# Altium schematic symbol library AltiumLibraries.SchLib: 442 symbols (part 2 of 3)
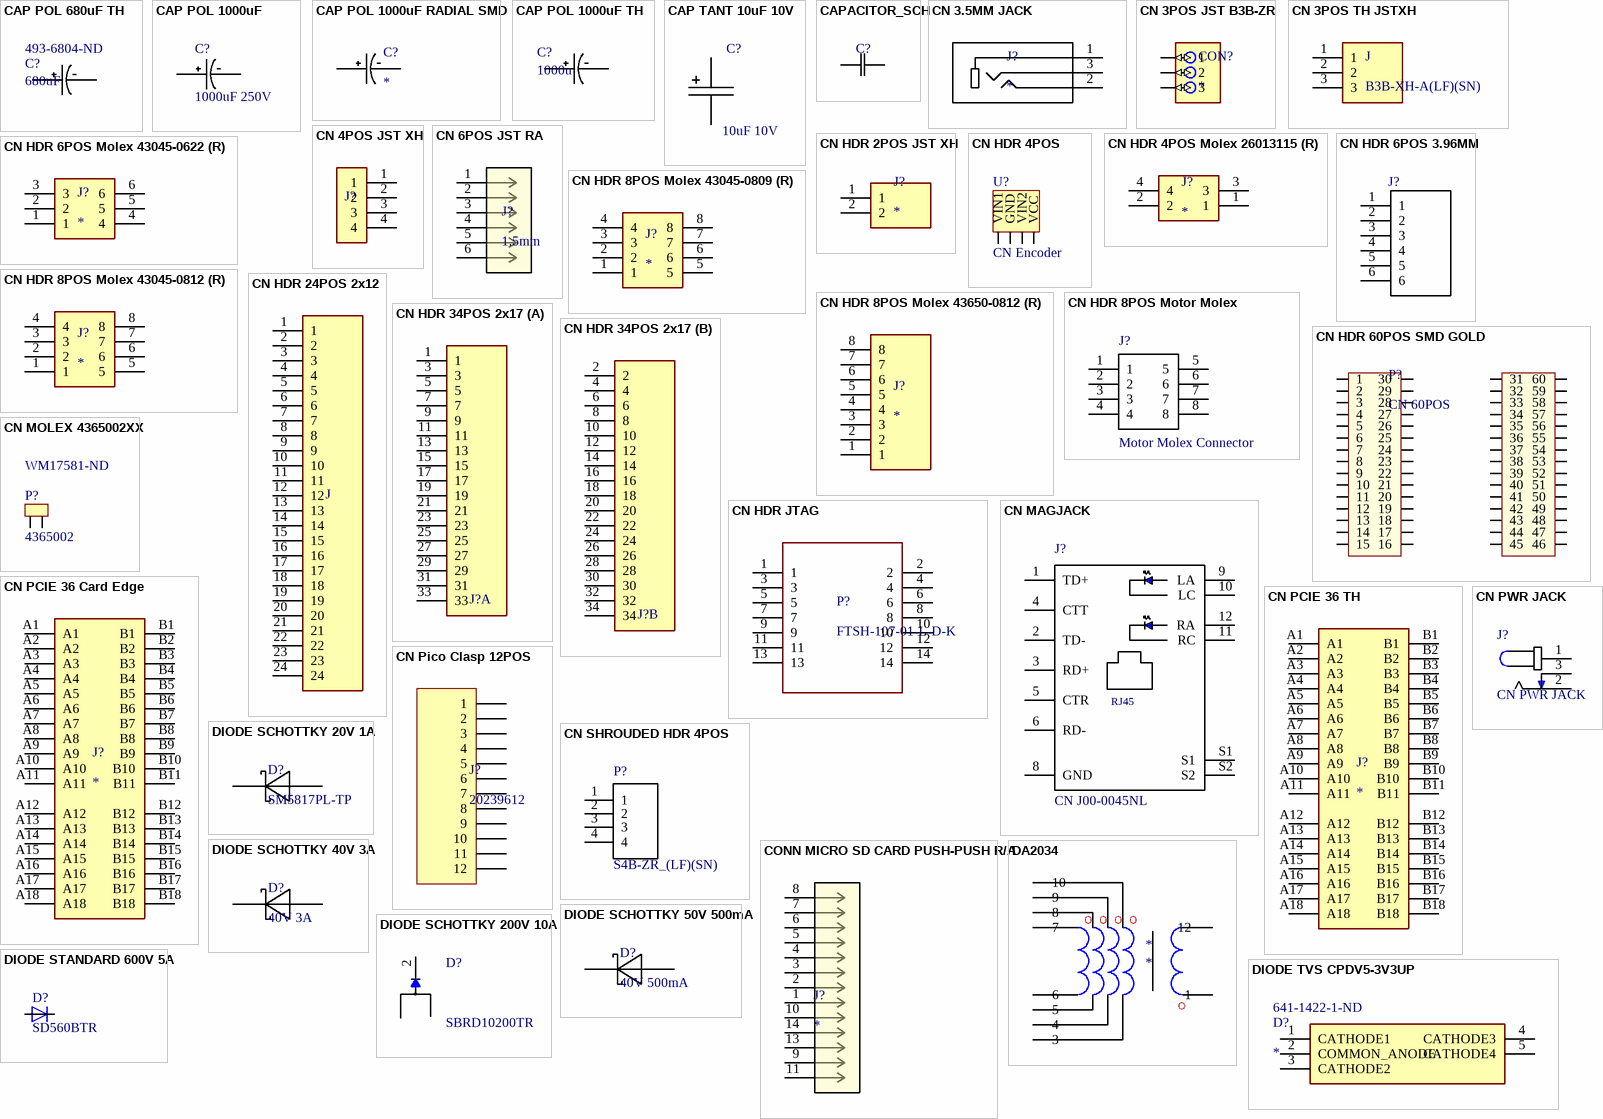
[diagram p12: symbols CAP POL 680uF TH to DIODE TVS CPDV5-3V3UP]

## DIODE TVS CPDV5-3V3UP
designator D?  Supplier Part Number 1: 641-1422-1-ND
TVS Diode Bidirectional Vbr = 3.5V, Working Voltage = 3.3V; Manufacturer_Name: Comchip Technology; Manufacturer_Part_Number: CPDV5-3V3UP; Datasheet Link: http://www.comchiptech.com/admin/files/product/CPDV5-3V3UP-HF%20RevB181493.pdf; Height: 1.1mm; Arrow Part Number: CPDV5-3V3UP; Arrow Price/Stock: https://www.arrow.com/en/products/cpdv5-3v3up/comchip-technology; Mouser Part Number: 750-CPDV5-3V3UP; Mouser Price/Stock: https://www.mouser.com/Search/Refine.aspx?Keyword=750-CPDV5-3V3UP; Supplier 1: Digi-Key
pins: 1 CATHODE1, 2 COMMON_ANODE, 3 CATHODE2, 4 CATHODE3, 5 CATHODE4

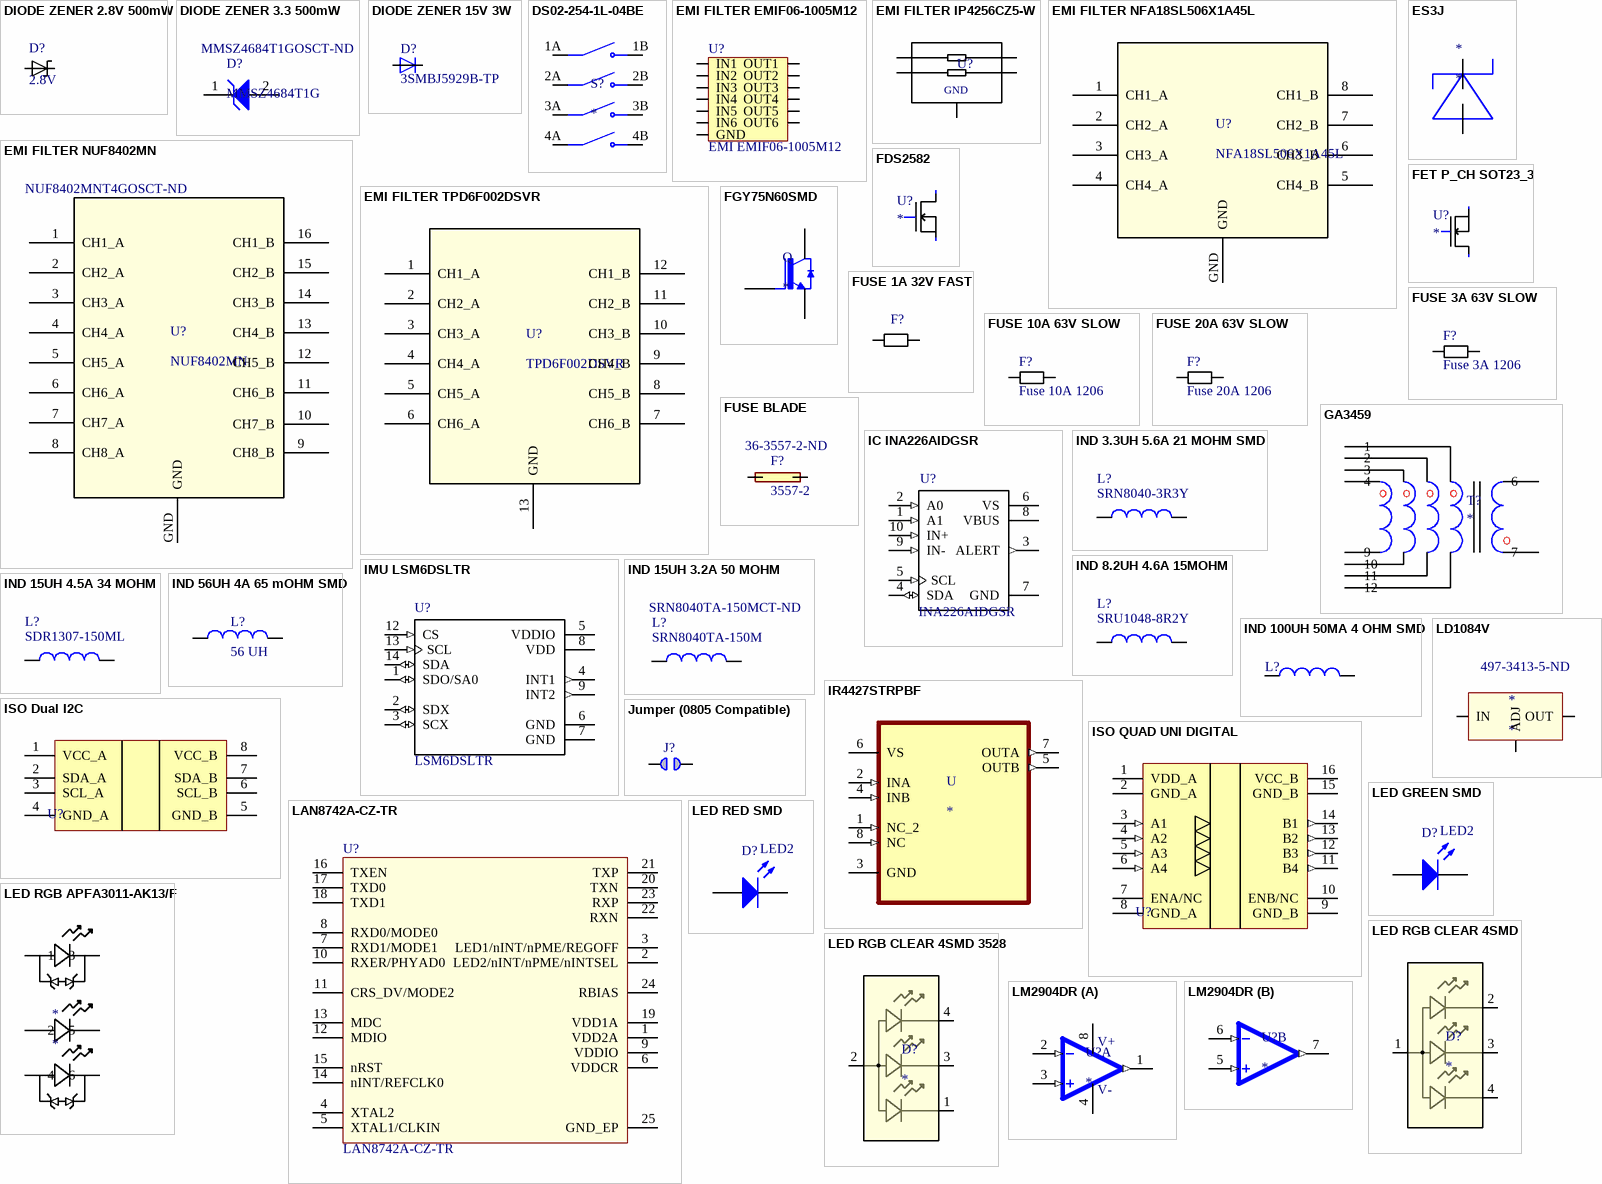
[diagram p4: symbols DIODE ZENER 2.8V 500mW to LM2904DR]

## DIODE ZENER 2.8V 500mW
designator D?, comment 2.8V
Zener Diode 2.8V 500mW ±5% Surface Mount SOD-123; Manufacturer: MMSZ5245B-TP; Impedance (Max) (Zzt): 30 Ohms; Current - Reverse Leakage @ Vr: 75µA @ 1V; Voltage - Forward (Vf) (Max) @ If: 900mV @ 10mA; ComponentLink1Description: digikey; ComponentLink1URL: https://www.digikey.ca/en/products/detail/micro-commercial-co/MMSZ5245B-TP/1793206; Power - Max: 500mW; Voltage - Zener (Nom) (Vz): 2.8V; DigiKey: MMSZ5245B-TPMSCT-ND
pins: A, C

## DIODE ZENER 3.3 500mW
designator D?, comment MMSZ4684T1G  Supplier Part Number 1: MMSZ4684T1GOSCT-ND
Zener 3V3 Voltage Regulator, 500 mW, 2-Pin SOD-123, Pb-Free, Tape and Reel; Manufacturer: On Semiconductor; P Max (W): 0.5; VZ Typ (V): 3.3; ComponentLink2URL: http://www.onsemi.com/pub_link/Collateral/MMSZ4678T1-D.PDF; ComponentLink1URL: http://www.onsemi.com/; PartNumber: MMSZ4684T1G; ComponentLink2Description: Datasheet; ComponentLink3URL: http://www.onsemi.com/pub_link/Collateral/425-04.PDF; DatasheetVersion: Rev. 9; ComponentLink1Description: Manufacturer URL; RoHS: Pb-Free; ComponentLink3Description: Package Specification; PackageReference: SOD-123-2-425-04; PackageVersion: Rev. G, 10/2009; Mounting Technology: Surface Mount; Packing: Tape and Reel; PackageDescription: 2-Pin SOD, Body 1.6 x 2.69 mm; Supplier 1: Digi-Key
pins: 1 K, 2 A

## DIODE ZENER 15V 3W
designator D?, comment 3SMBJ5929B-TP
Diode ZENER 15V 3W; Supplier 1: Digi-Key; Supplier Part Number 1: 3SMBJ5929BTPMSCT-ND
pins: A, C

## DS02-254-1L-04BE
designator S?
Dip Switch Piano Key 4-position; MP: DS02-254-1L-04BE; Package: None; Price: None; Value: *; Availability: Unavailable
pins: 1A COM1, 1B NO1, 2A COM2, 2B NO2, 3A COM3, 3B NO3, 4A COM4, 4B NO4

## EMI FILTER EMIF06-1005M12
designator U?, comment EMI EMIF06-1005M12
FILTER RC(PI) 100 OHM/45PF SMD; MF: STMicroelectronics; Price: 0.49 CAD; Digikey: 497-7740-1-ND; MP: EMIF06-1005M12; Digikey Link: https://www.digikey.ca/product-detail/en/stmicroelectronics/EMIF06-1005M12/497-7740-1-ND/1883755; Package: 12-UFDFN; Supplier 1: Digi-Key; Supplier Part Number 1: 497-7740-1-ND
pins: 1 IN1, 2 IN2, 3 IN3, 4 IN4, 5 IN5, 6 IN6, 7 OUT1, 8 OUT2, 9 OUT3, 10 OUT4, 11 OUT5, 12 OUT6, GND

## EMI FILTER IP4256CZ5-W
designator U?, comment EMI  (value not drawn)
FILTER RC(PI) 100 OHM/19PF SMD; MF: Nexperia USA Inc.; MP: IP4256CZ5-W,115; SnapEDA_Link: https://www.snapeda.com/parts/IP4256CZ5-W/Nexperia%20USA%20Inc./view-part/3605439/?ref=snap; Price: 0.17 CAD; Package: SOT-665; Digikey: 1727-4718-1-ND; Digikey Link: https://www.digikey.ca/product-detail/en/nexperia-usa-inc/IP4256CZ5-W115/1727-4718-1-ND/2531158; Supplier 1: Digi-Key; Supplier Part Number 1: 1727-4718-1-ND
pins: 1 P$1, 2 P$2, 3 P$3, 4 P$4, 5 P$5
text: GND

## EMI FILTER NFA18SL506X1A45L
designator U?, comment NFA18SL506X1A45L
4-Channel EMI Filter 55Mhz LC 2nd Order; Manufacturer: MURATA; GENERIC_PART_NUMBER: TPD6F002; Manufacturer_Part_Number: TPD6F002DSVR; INDUSTRY_STD_PKG_TYPE: 0603 Array; FAMILY_NAME: EMI Solution; PIN_COUNT: 10; Vendor: Texas Instruments; Copyright: Copyright (C) 2018 Accelerated Designs. All rights reserved; RefDes: RefDes; Type: DEV; Supplier 1: Digi-Key
pins: 1 CH1_A, 2 CH2_A, 3 CH3_A, 4 CH4_A, 5 CH4_B, 6 CH3_B, 7 CH2_B, 8 CH1_B, GND

## EMI FILTER NUF8402MN
designator U?, comment NUF8402MN  Supplier Part Number 1: NUF8402MNT4GOSCT-ND
EMI Filter 8ch 105Mhz 100Ohm; Supplier 1: Digi-Key
pins: 1 CH1_A, 2 CH2_A, 3 CH3_A, 4 CH4_A, 5 CH5_A, 6 CH6_A, 7 CH7_A, 8 CH8_A, 9 CH8_B, 10 CH7_B, 11 CH6_B, 12 CH5_B, 13 CH4_B, 14 CH3_B, 15 CH2_B, 16 CH1_B, GND

## EMI FILTER TPD6F002DSVR
designator U?, comment TPD6F002DSVR
6-Channel EMI Filter for Display Interface; Manufacturer: Texas Instruments; INDUSTRY_STD_PKG_TYPE: SON; FAMILY_NAME: EMI Solution; PIN_COUNT: 12; PACKAGE_DESIGNATOR: DSV; Datasheet_URL: http://www.ti.com/lit/gpn/TPD6F002; GENERIC_PART_NUMBER: TPD6F002; Vendor: Texas Instruments; Manufacturer_Part_Number: TPD6F002DSVR; Copyright: Copyright (C) 2018 Accelerated Designs. All rights reserved; RefDes: RefDes; Type: DEV
pins: 1 CH1_A, 2 CH2_A, 3 CH3_A, 4 CH4_A, 5 CH5_A, 6 CH6_A, 7 CH6_B, 8 CH5_B, 9 CH4_B, 10 CH3_B, 11 CH2_B, 12 CH1_B, 13 GND

## ES3J
designator *
Diode Switching 600V 3A 2-Pin DO-214AB T/R; Manufacturer: ON Semiconductor / Fairchild; Manufacturer Part Number: ES3J; Element Configuration: Single; Power Dissipation: 1.66W; Reverse Recovery Time: 35ns; Peak Non-Repetitive Surge Current: 100A; Polarity: Standard; Capacitance: 45pF; Forward Voltage: 1.7V; Peak Reverse Current: 10uA; Supplier 1: Digi-Key; RoHS: Yes; Category: Zener Diodes; Stock 1: 20740; Pricing 1: 1=0.47000, 10=0.37800, 25=0.34600, 100=0.21740, 250=0.21492, 500=0.20126, 1000=0.13685 (USD); Mount: Surface Mount; Case/Package: SMC; Number of Pins: 2; Contact Plating: Tin,Matte; Min Operating Temperature: -50°C; Max Operating Temperature: 150°C; Reverse Voltage: 600V; Max Reverse Voltage (DC): 600V; Average Rectified Current: 3A; Max Repetitive Reverse Voltage (Vrrm): 600V; Max Forward Surge Current (Ifsm): 100A; Current: 3A; Voltage: 600V; Voltage Rating (DC): 600V; Current Rating: 3A; Output Current: 3A; Max Surge Current: 100A; Packaging: Tape and Reel; Package Quantity: 3000; Recovery Time: 35ns; Forward Current: 3A; Length: 7.11mm; Height: 2.616mm; Width: 6.223mm; Radiation Hardening: No; REACH SVHC: No SVHC; Lead Free: Lead Free; ComponentLink1URL: https://datasheet.ciiva.com/4452/es3j-187547-4452440.pdf?src-supplier=Mouser; ComponentLink1Description: https://datasheet.ciiva.com/4452/es3j-187547-4452440.pdf?src-supplier=Mouser; ComponentLink2URL: https://datasheet.ciiva.com/30479/0900766b810e1d0b-30479500.pdf?src-supplier=RSComponents; ComponentLink2Description: https://datasheet.ciiva.com/30479/0900766b810e1d0b-30479500.pdf?src-supplier=RSComponents; ComponentLink3URL: https://datasheet.ciiva.com/22651/1856389-22651960.pdf?src-supplier=Element14; ComponentLink3Description: https://datasheet.ciiva.com/22651/1856389-22651960.pdf?src-supplier=Element14; ComponentLink4URL: https://datasheet.ciiva.com/26230/es3j-26230952.pdf?src-supplier=Avnet+Europe; ComponentLink4Description: https://datasheet.ciiva.com/26230/es3j-26230952.pdf?src-supplier=Avnet+Europe; ComponentLink5URL: https://datasheet.ciiva.com/911/es3a-911003.pdf?src-supplier=Digi-Key; ComponentLink5Description: https://datasheet.ciiva.com/911/es3a-911003.pdf?src-supplier=Digi-Key; ComponentLink6URL: https://datasheet.ciiva.com/911/es3a-911004.pdf?src-supplier=Digi-Key; ComponentLink6Description: https://datasheet.ciiva.com/911/es3a-911004.pdf?src-supplier=Digi-Key; ComponentLink7URL: https://datasheet.ciiva.com/23683/1856389-23683564.pdf?src-supplier=Newark; ComponentLink7Description: https://datasheet.ciiva.com/23683/1856389-23683564.pdf?src-supplier=Newark; ComponentLink8URL: https://datasheet.ciiva.com/17194/es3j-17194703.pdf?src-supplier=Future+Electronics; ComponentLink8Description: https://datasheet.ciiva.com/17194/es3j-17194703.pdf?src-supplier=Future+Electronics; ComponentLink9URL: https://datasheet.ciiva.com/7965/1856389-7965165.pdf?src-supplier=Element14; ComponentLink9Description: https://datasheet.ciiva.com/7965/1856389-7965165.pdf?src-supplier=Element14; ComponentLink10URL: https://datasheet.ciiva.com/8300/es3j-8300861.pdf?src-supplier=Avnet; ComponentLink10Description: https://datasheet.ciiva.com/8300/es3j-8300861.pdf?src-supplier=Avnet; Supplier Part Number 1: ES3JCT-ND
pins: IN, OUT

## FDS2582
designator U?
N-Channel 150V 4.1A (Ta) 2.5W (Ta) Surface Mount 8-SOIC; MF: ON Semiconductor; MP: FDS2582; Digikey: FDS2582CT-ND; Price: 0.98 CAD; Rating: 150V; Digikey Link: https://www.digikey.com/product-detail/en/on-semiconductor/FDS2582/FDS2582CT-ND/3025307; Package: 8-SOIC; Supplier 1: Digi-Key; Supplier Part Number 1: FDS2582CT-ND
pins: D, G, S

## FET P_CH SOT23_3
designator U?
P-Channel MOSFET General Purpose P-CH SOT23-3; Parameter 1: C10487
pins: D, G, S

## FGY75N60SMD
designator Q
IGBT Field Stop 600V 150A 750W Through Hole PowerTO-247-3; MF: ON Semiconductor; MP: FGY75N60SMD; Vge max: ±20V; Topology: Field Stop IGBT; Vce max: 600V; Package: TO-247 Fairchild Semiconductor; Ic max: 150A; Power: 750W; Supplier 1: Digi-Key; Supplier Part Number 1: FGY75N60SMDFS-ND
pins: 1 G, 2 C, 3 E

## FUSE 1A 32V FAST
designator F?
FUSE 1A 32V DC 0603; Response Time: Fast Blow; Current Rating: 1A; ComponentLink1Description: digikey; ComponentLink1URL: https://www.digikey.ca/en/products/detail/kemet/C0603C100K5RAC7867/8572397; Voltage Rating - DC: 32V; Operating Temperature: -55°C ~ 90°C
pins: 1, 2

## FUSE 3A 63V SLOW
designator F?, comment Fuse 3A 1206
FUSE 3A 63V AC/DC SLOW 1206; Response Time: Slow Blow; Current Rating (Amps): 3A; Operating Temperature: -55°C ~ 90°C; Voltage Rating - AC: 63V; Voltage Rating - DC: 63V
pins: 1, 2

## FUSE 10A 63V SLOW
designator F?, comment Fuse 10A 1206
FUSE 10A 32V AC 63V DC 1206; Response Time: Slow Blow; Rating: 10A; Voltage Rating - DC: 63V; Voltage Rating - AC: 32V; Operating Temperature: -55°C ~ 90°C
pins: 1, 2

## FUSE 20A 63V SLOW
designator F?, comment Fuse 20A 1206
FUSE 20A 32V AC 63V DC 1206; Response Time: Slow Blow; Current Rating (Amps): 20A; Voltage Rating - AC: 32V; Voltage Rating - DC: 63V; Operating Temperature: -55°C ~ 90°C
pins: 1, 2

## FUSE BLADE
designator F?, comment 3557-2  Supplier Part Number 1: 36-3557-2-ND
Fuse Block 30A 500V 1 Circuit Blade Through Hole; MF: Keystone Electronics; Package: Nonstandard Keystone; Value: *; Price: None; MP: 3557-2; SnapEDA_Link: https://www.snapeda.com/parts/3557-2/Keystone%20Electronics/view-part/278060/?ref=snap; Availability: Unavailable; Supplier 1: Digi-Key
pins: 1 1A, 2 1B, 3 2A, 4 2B

## GA3459
designator T?
Audio Transformers / Signal Transformers GA3459 for LT3751 500V 20A; Supplier 1: Mouser; Supplier Part Number 1: 994-GA3459-BL
pins: 1, 2, 3, 4, 6, 7, 9, 10, 11, 12

## IC INA226AIDGSR
designator U?, comment INA226AIDGSR
36-V, Bi-Directional, Ultra-High Accuracy, Low-/High-Side, I2C Out Current/Power Monitor w/ Alert 10-VSSOP -40 to 125; MF: Texas Instruments; Price: None; MP: INA226AIDGSR; SnapEDA_Link: https://www.snapeda.com/parts/INA226AIDGSR/Texas%20Instruments/view-part/53552/?ref=snap; Package: MSOP-10 Texas Instruments; Digikey: 296-29034-1-ND; Digikey Link: https://www.digikey.ca/product-detail/en/texas-instruments/INA226AIDGSR/296-29034-1-ND/2687118; Supplier 1: Digi-Key; Supplier Part Number 1: 296-29034-6-ND
pins: 1 A1 (in), 2 A0 (in), 3 ALERT (out), 4 SDA (io), 5 SCL (in), 6 VS (power), 7 GND (power), 8 VBUS (power), 9 IN- (in), 10 IN+ (in)

## IMU LSM6DSLTR
designator U?, comment LSM6DSLTR
IMU ACCEL/GYRO I2C/SPI 14LGA; MF: STMicroelectronics; SnapEDA_Link: https://www.snapeda.com/parts/LSM6DSLTR/STMicroelectronics/view-part/550517/?ref=snap; MP: LSM6DSLTR; Package: LGA-14 STMicroelectronics; Digikey: https://www.digikey.ca/product-detail/en/stmicroelectronics/LSM6DSLTR/497-16705-1-ND/6192805; Supplier 1: Digi-Key; Supplier Part Number 1: 497-16705-1-ND
pins: 1 SDO/SA0 (io), 2 SDX (io), 3 SCX (io), 4 INT1 (out), 5 VDDIO (power), 6 GND (power), 7 GND (power), 8 VDD (power), 9 INT2 (out), 12 CS (in), 13 SCL (in), 14 SDA (io)

## IND 3.3UH 5.6A 21 MOHM SMD
designator L?, comment SRN8040-3R3Y
3.3µH Semi-Shielded Wirewound Inductor 5.6A 21mOhm Max Nonstandard; MF: Bourns Inc.; Inductance: 3.3uH; MP: SRN8040-3R3Y; Price: None; Package: Nonstandard; ComponentLink1Description: digikey; ComponentLink1URL: https://www.digikey.ca/en/products/detail/bourns-inc/SRU1048-8R2Y/2352912; Digikey: SRN8040-3R3YCT-ND; Digikey Link: https://www.digikey.ca/en/products/detail/bourns-inc/SRN8040-3R3Y/2756131
pins: 1, 2

## IND 8.2UH 4.6A 15MOHM
designator L?, comment SRU1048-8R2Y
8.2µH Shielded Wirewound Inductor 4.6A 15mOhm Nonstandard; MF: Bourns Inc.; Value: 8.2uH; MP: SRU1048-8R2Y; Price: None; Package: Nonstandard; ComponentLink1Description: digikey; ComponentLink1URL: https://www.digikey.ca/en/products/detail/bourns-inc/SRU1048-8R2Y/2352912; Digikey: SRU1048-8R2YCT-ND; Digikey Link: https://www.digikey.ca/en/products/detail/bourns-inc/SRU1048-8R2Y/2352912
pins: 1, 2

## IND 15UH 3.2A 50 MOHM
designator L?, comment SRN8040TA-150M  Supplier Part Number 1: SRN8040TA-150MCT-ND
15µH Semi-Shielded Wirewound Inductor 2.4A 70mOhm Max Nonstandard; MF: Bourns Inc.; Inductance: 15.0uH; Current - Saturation: 4A; DC Resistance (DCR): 50mOhm; MP: SRN8040TA-150M; Height - Seated (Max): 4.2mm; ComponentLink1Description: digikey; ComponentLink1URL: https://www.digikey.ca/en/products/detail/bourns-inc/SRU1048-8R2Y/2352912; Digikey: SRN8040TA-150MCT-ND; Digikey Link: https://www.digikey.ca/en/products/detail/bourns-inc/SRN8040TA-150M/6155130; Operating Temperature: -40°C ~ 125°C; Size / Dimension: 0.512"" L x 0.512"" W (13.00mm x 13.00mm); Supplier 1: Digi-Key
pins: 1, 2

## IND 15UH 4.5A 34 MOHM
designator L?, comment SDR1307-150ML
15µH Unshielded Wirewound Inductor 4.5A 34mOhm Max Nonstandard; MF: Bourns Inc.; Inductance: 15.0uH; Current - Saturation: 7.5A; MP: SDR1307-150ML; Height - Seated (Max): 0.287"" (7.30mm); ComponentLink1Description: digikey; ComponentLink1URL: https://www.digikey.ca/en/products/detail/bourns-inc/SRU1048-8R2Y/2352912; Digikey: SDR1307-150MLCT-ND; Digikey Link: https://www.digikey.ca/en/products/detail/bourns-inc/SDR1307-150ML/2561929; DC Resistance (DCR): 34mOhm; Operating Temperature: -40°C ~ 125°C; Size / Dimension: 0.512"" L x 0.512"" W (13.00mm x 13.00mm)
pins: 1, 2

## IND 56UH 4A 65 mOHM SMD
designator L?, comment 56 UH
FIXED IND 56UH 4A 65 MOHM SMD Shielded - Inductor 65mOhm Max Nonstandard -; Value: 56 µH; Digi-Key Part Number: 283-HCM1A1307V2-560-RTR-ND; Current Rating: 4A; DC Resistance: 65mOhm; Supplier 1: Digi-Key; Supplier Part Number 1: 283-HCM1A1307V2-560-RCT-ND
pins: 1, 2, 3, 4

## IND 100UH 50MA 4 OHM SMD
designator L?
100µH Unshielded Wirewound Inductor 50mA 4Ohm 0805 (2012 Metric); Value: 100uH; MF: Taiyo Yuden; MP: LBR2012T101K; Revision: July-2002: Re-released for DXP Platform.; Digikey: 587-2048-1-ND; Digikey Link: https://www.digikey.ca/product-detail/en/taiyo-yuden/LBR2012T101K/587-2048-1-ND/1788995; Supplier 1: Digi-Key; Supplier Part Number 1: 587-4040-1-ND
pins: 1, 2

## IR4427STRPBF
designator U
Low-Side Gate Driver IC Non-Inverting 8-SOIC; MF: Infineon Technologies; MP: IR4427STRPBF; Package: SOIC-8 Infineon; Price: None; Availability: Unavailable; SnapEDA_Link: https://www.snapeda.com/parts/IR4427STRPBF/Infineon%20Technologies/view-part/1815787/?ref=snap; Value: *; Supplier 1: Digi-Key; Supplier Part Number 1: IR4427SPBFCT-ND
pins: 1 NC_2 (in), 2 INA (in), 3 GND, 4 INB (in), 5 OUTB (out), 6 VS (power), 7 OUTA (out), 8 NC (in)

## ISO Dual I2C
designator U?
Digital Isolation Dual Ch Bidirectional I2C; Revision: 1
pins: 1 VCC_A, 2 SDA_A, 3 SCL_A, 4 GND_A, 5 GND_B, 6 SCL_B, 7 SDA_B, 8 VCC_B

## ISO QUAD UNI DIGITAL
designator U?
Digital Isolation Quad Channel.; Revision: 1
pins: 1 VDD_A, 2 GND_A, 3 A1 (in), 4 A2 (in), 5 A3 (in), 6 A4 (in), 7 ENA/NC, 8 GND_A, 9 GND_B, 10 ENB/NC, 11 B4 (out), 12 B3 (out), 13 B2 (out), 14 B1 (out), 15 GND_B, 16 VCC_B

## Jumper (0805 Compatible)
designator J?  (value not drawn)
pins: 1, 2

## LAN8742A-CZ-TR
designator U?
LAN8742A-CZ-TR - Small Footprint RMII 10/100 Ethernet, Transceiver with HP Auto-MDIX and flexPWR Technology SQFN-24; MF: Microchip Technology; MP: LAN8742A-CZ-TR; Digikey: LAN8742A-CZ-CT-ND; Digikey Link: https://www.digikey.ca/product-detail/en/microchip-technology/LAN8742A-CZ-TR/LAN8742A-CZ-CT-ND/8256089; Supplier 1: Digi-Key; Supplier Part Number 1: LAN8742A-CZ-CT-ND
pins: 1 VDD2A, 2 LED2/nINT/nPME/nINTSEL, 3 LED1/nINT/nPME/REGOFF, 4 XTAL2, 5 XTAL1/CLKIN, 6 VDDCR, 7 RXD1/MODE1, 8 RXD0/MODE0, 9 VDDIO, 10 RXER/PHYAD0, 11 CRS_DV/MODE2, 12 MDIO, 13 MDC, 14 nINT/REFCLK0, 15 nRST, 16 TXEN, 17 TXD0, 18 TXD1, 19 VDD1A, 20 TXN, 21 TXP, 22 RXN, 23 RXP, 24 RBIAS, 25 GND_EP

## LD1084V
designator *  Supplier Part Number 1: 497-3413-5-ND
STMICROELECTRONICS         LD1084V            LDO Voltage Regulator, Adjustable, 30V in, 1.3V drop, 5A out, TO-220-3; Interface: SPI,Serial; Access Time: 60ns; Output Voltage: 28V; Number of Outputs: 1; Output Voltage Accuracy: 1%; Max Frequency: 5MHz; Input Bias Current: 5mA; Reference Voltage: 1.25V; Polarity: Positive; Quiescent Current: 10mA; Min Output Voltage: 2.5V; Density: 128Kb; Min Input Voltage: 4.25V; Supplier 1: Digi-Key; Manufacturer: STMicroelectronics; Manufacturer Part Number: LD1084V; RoHS: Yes; Category: Voltage Regulators - Linear; Stock 1: 3520; Pricing 1: 1=1.30000, 10=1.16200, 25=1.10320, 100=0.84710, 250=0.74860, 500=0.70920, 1000=0.55160, 2500=0.52402, 5000=0.50432 (USD); Mount: Through Hole; Case/Package: TO; Number of Pins: 3; Min Operating Temperature: -40°C; Max Operating Temperature: 125°C; Dropout Voltage: 1.3V; Package Quantity: 50; Max Input Voltage: 30V; Output Current: 5A; Packaging: Rail/Tube; Max Output Current: 5A; Number of Regulators: 1; Output Type: Adjustable; Accuracy: 1%; Length: 10.4mm; Height: 9.15mm; Width: 4.6mm; Radiation Hardening: No; REACH SVHC: No SVHC; Lead Free: Lead Free; ComponentLink1URL: https://datasheet.ciiva.com/15111/getdatasheetpartid-64852-15111283.pdf?src-supplier=Verical; ComponentLink1Description: https://datasheet.ciiva.com/15111/getdatasheetpartid-64852-15111283.pdf?src-supplier=Verical; ComponentLink2URL: https://datasheet.ciiva.com/27052/1390160-27052164.pdf?src-supplier=Jameco; ComponentLink2Description: https://datasheet.ciiva.com/27052/1390160-27052164.pdf?src-supplier=Jameco; ComponentLink3URL: https://datasheet.ciiva.com/1511/1786011-1511541.pdf?src-supplier=Element14; ComponentLink3Description: https://datasheet.ciiva.com/1511/1786011-1511541.pdf?src-supplier=Element14; ComponentLink4URL: https://datasheet.ciiva.com/16496/cd00003086-16496021.pdf?src-supplier=Future+Electronics; ComponentLink4Description: https://datasheet.ciiva.com/16496/cd00003086-16496021.pdf?src-supplier=Future+Electronics; ComponentLink5URL: https://datasheet.ciiva.com/2045/cd00003086-2045335.pdf?src-supplier=Digi-Key; ComponentLink5Description: https://datasheet.ciiva.com/2045/cd00003086-2045335.pdf?src-supplier=Digi-Key
pins: 1 IN, 2 ADJ, 3 OUT

## LED GREEN SMD
designator D?, comment LED2
Typical RED, GREEN, YELLOW, AMBER GaAs LED; Voltage - Forward (Vf) (Typ): 2V; Lens Transparency: Clear; Current - Test: 20mA; Package: 1206; Color: Green
pins: 1 A, 2 K

## LED RED SMD
designator D?, comment LED2
Typical RED, GREEN, YELLOW, AMBER GaAs LED; Lens Color: Colorless; Voltage - Forward (Vf) (Typ): 1.7V; Current - Test: 20mA; Lens Transparency: Clear; Color: Red; Package: 1206
pins: 1 A, 2 K

## LED RGB APFA3011-AK13/F
designator *
ComponentLink1Description: Digikey; ComponentLink1URL: https://www.digikey.com/en/products/detail/kingbright/APFA3011-AK13-F/7597102
pins: 1, 2, 3, 4, 5, 6

## LED RGB CLEAR 4SMD
designator D?
LED RGB No Lead
pins: 1, 2, 3, 4

## LED RGB CLEAR 4SMD 3528
designator D?
LED RGB No Lead / AAA3528
pins: 1, 2, 3, 4

## LM2904DR
designator U?
General Purpose Amplifier 2 Circuit 8-SOIC; MF: Texas Instruments; MP: LM2904DR; Package: SOIC-8 Texas Instruments; Availability: Unavailable; Value: *; SnapEDA_Link: https://www.snapeda.com/parts/LM2904DR/Texas%20Instruments/view-part/105730/?ref=snap; Price: None; Supplier 1: Digi-Key; Supplier Part Number 1: 296-14596-1-ND
part A pins: 1 OUT1 (out), 2 IN1- (in), 3 IN1+ (in), 4 V- (power), 8 V+ (power)
part B pins: 5 IN2+ (in), 6 IN2- (in), 7 OUT2 (out)

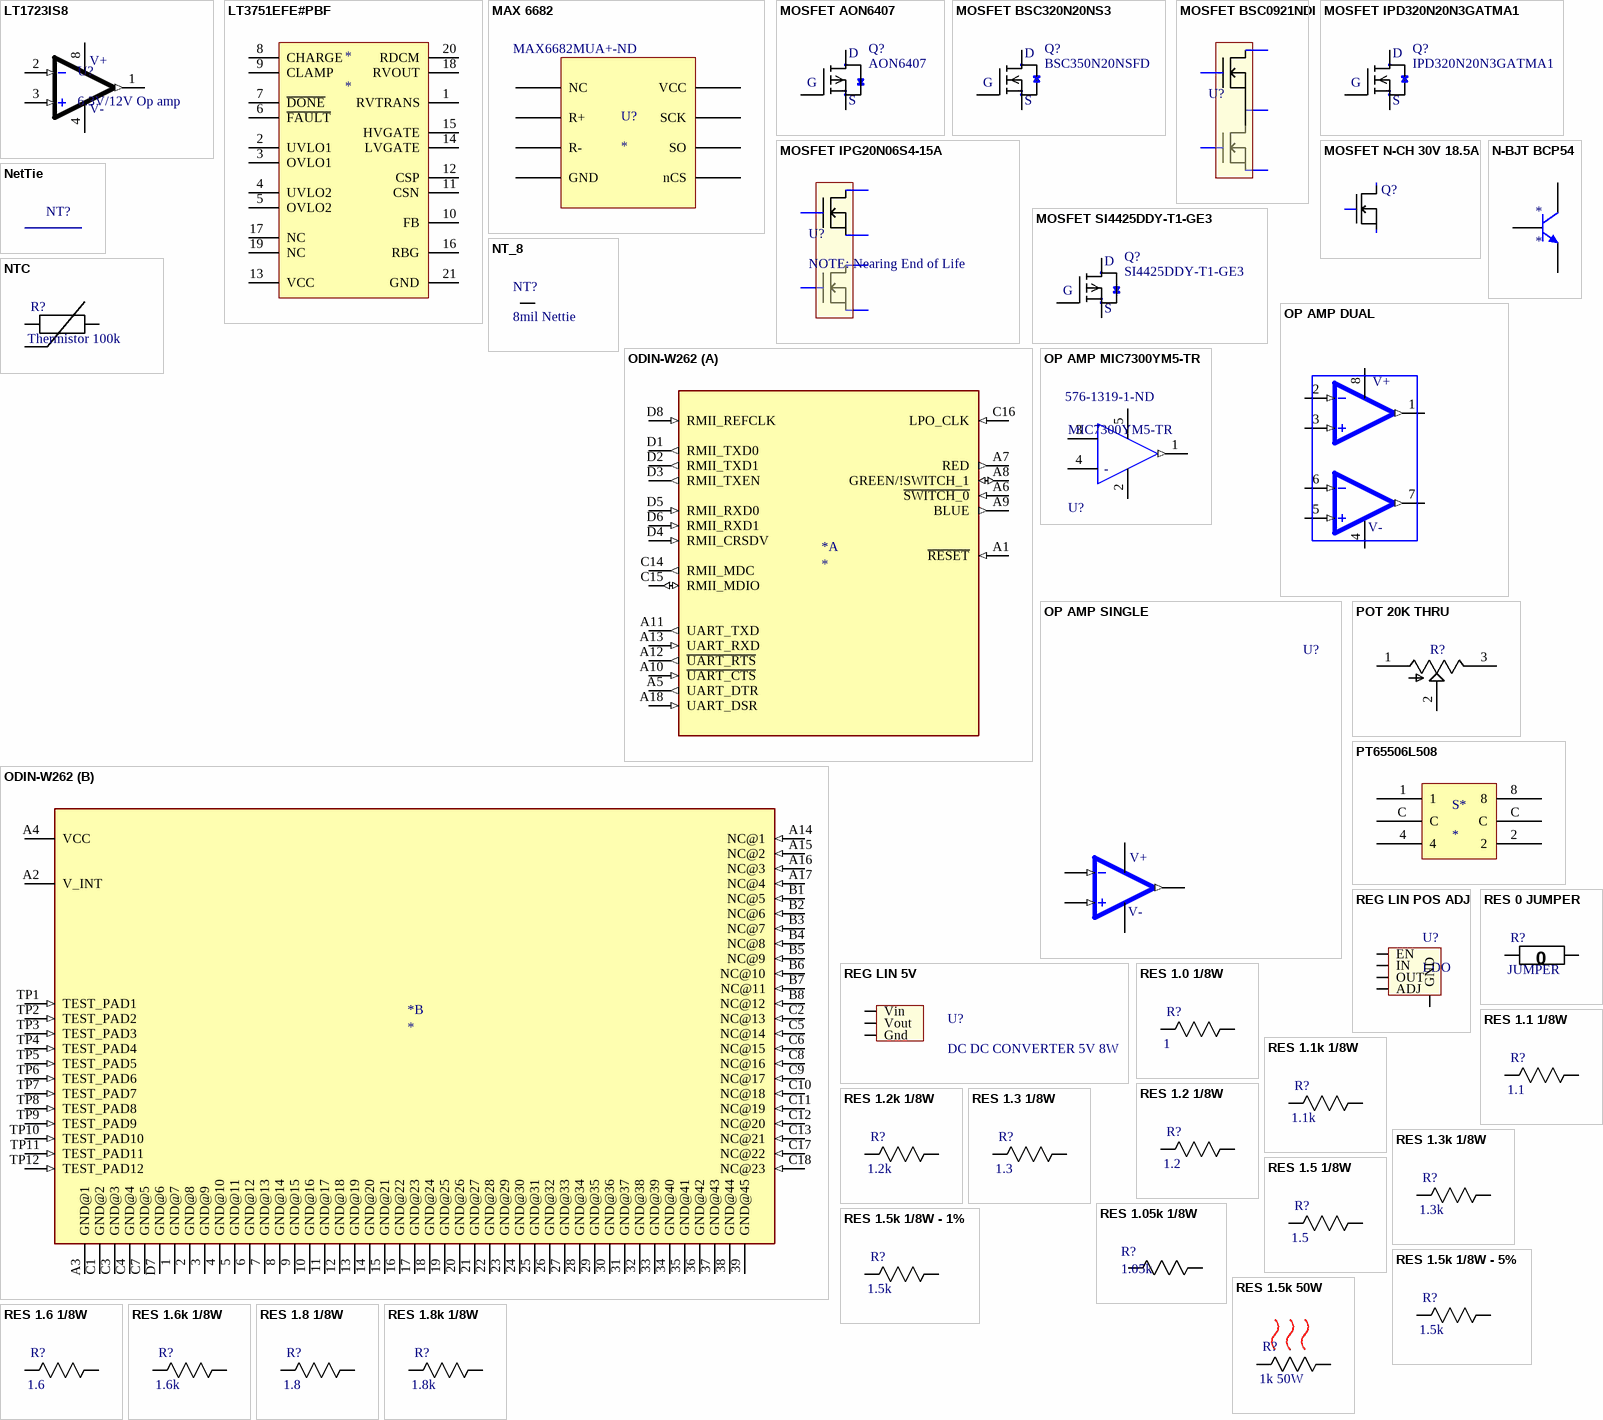
[diagram p5: symbols LT1723IS8 to RES 1.8k 1/8W]

## LT1723IS8
designator U?, comment 6.3V/12V Op amp
IC OPAMP VFB 200MHZ 8SO; Manufacturer: Analog Devices / Linear Technology; Manufacturer Part Number: LT1723IS8#PBF; Min Dual Supply Voltage: 1.15V; Operating Supply Voltage: 3V; Max Dual Supply Voltage: 6.3V; Voltage Gain: 80dB; Slew Rate: 70V/µs; Max Supply Voltage: 12.6V; Min Supply Voltage: 4.6V; Number of Circuits: 2; Input Bias Current: 40nA; Input Offset Voltage (Vos): 400uV; Operating Supply Current: 3.7mA; Output Current per Channel: 50mA; Power Supply Rejection Ratio (PSRR): 78dB; Max Supply Current: 10mA; Supplier 1: Digi-Key; RoHS: Yes; Category: Amplifiers - Op Amps, Buffer, Instrumentation; Stock 1: 290; Case/Package: SOIC; Number of Pins: 8; Min Operating Temperature: -40°C; Max Operating Temperature: 85°C; Package Quantity: 100; Dual Supply Voltage: 3V; Common Mode Rejection Ratio: 80dB; Packaging: Rail/Tube; Nominal Gain Bandwidth Product: 200MHz; Gain Bandwidth Product: 200MHz; Number of Elements: 2; Number of Channels: 2; Length: 5mm; Height: 1.5mm; Width: 3.99mm; Lead Free: Lead Free; ComponentLink1URL: https://datasheet.ciiva.com/19464/1739931-19464951.pdf?src-supplier=Jameco; ComponentLink1Description: https://datasheet.ciiva.com/19464/1739931-19464951.pdf?src-supplier=Jameco; ComponentLink2URL: https://datasheet.ciiva.com/1802/1627-1802924.pdf?src-supplier=Digi-Key; ComponentLink2Description: https://datasheet.ciiva.com/1802/1627-1802924.pdf?src-supplier=Digi-Key; Supplier Part Number 1: LT1723IS8#PBF-ND
pins: 1 OUT1 (out), 2 IN1- (in), 3 IN1+ (in), 4 V- (power), 8 V+ (power)

## LT3751EFE#PBF
designator *
Controller to 20-Pin TSSOP EP; Manufacturer: Analog Devices / Linear Technology; Manufacturer Part Number: LT3751EFE#PBF; Output Voltage: 500V; Output Current: 150mA; Max Input Voltage: 24V; Min Supply Voltage: 4.75V; Number of Outputs: 1; Operating Supply Current: 5.5mA; Supplier 1: Digi-Key; RoHS: Yes; Category: Voltage Regulators - Switching; Stock 1: 1231; Pricing 1: 1=9.26000, 25=6.14640, 100=5.08200, 250=4.82792, 500=4.71900 (USD); Case/Package: TSSOP; Number of Pins: 20; Min Operating Temperature: -40°C; Max Operating Temperature: 125°C; Package Quantity: 74; Packaging: Rail/Tube; Termination: SMD/SMT; Max Supply Voltage: 24V; Radiation Hardening: No; REACH SVHC: No SVHC; ComponentLink1URL: https://datasheet.ciiva.com/15104/getdatasheetpartid-472813-15104438.pdf?src-supplier=Verical; ComponentLink1Description: https://datasheet.ciiva.com/15104/getdatasheetpartid-472813-15104438.pdf?src-supplier=Verical; ComponentLink2URL: https://datasheet.ciiva.com/31429/1692507-31429494.pdf?src-supplier=Farnell; ComponentLink2Description: https://datasheet.ciiva.com/31429/1692507-31429494.pdf?src-supplier=Farnell; ComponentLink3URL: https://datasheet.ciiva.com/1964/27024-1964843.pdf?src-supplier=Digi-Key; ComponentLink3Description: https://datasheet.ciiva.com/1964/27024-1964843.pdf?src-supplier=Digi-Key
pins: 1 RVTRANS "Transformer Supply Sense Pin. Connect a resistor between the RVTRANS pin and the VTRANS supply. Refer to Table 2 for proper sizing of the RVTRANS resistor. The minimum operation voltage for VTRANS is 4.75V.", 2 UVLO1 "VTRANS Undervoltage Lockout Pin. Senses when VTRANS drops below: VUVLO1 = 1.225+ 50uA •RUVLO1 and trips the F\A\U\L\T\ latch low, disabling switching. After VTRANS rises above VUVLO1, toggling the CHARGE pin reactivate(See Datasheet)", 3 OVLO1 "VTRANS Overvoltage Lockout Pin. Senses when VTRANS rises above: VOVLO1 = 1.225+ 50uA •ROVLO1 and trips the F\A\U\L\T\ latch low, disabling switching. After VTRANS drops below VOVLO1, toggling the CHARGE pin reactivate(See Datasheet)", 4 UVLO2 "VCC Undervoltage Lockout Pin. Senses when VCC drops below: VUVLO2 = 1.225+ 50uA •RUVLO2 and trips the F\A\U\L\T\ latch low, disabling switching. After VCC rises above VUVLO2, toggling the CHARGE pin reactivates switching.", 5 OVLO2 "VCC Overvoltage Lockout Pin. Senses when VCC rises above: VOVLO2 = 1.225+ 50uA •ROVLO2 and trips the F\A\U\L\T\ latch low, disabling switching. After VCC drops below VOVLO2, toggling the CHARGE pin reactivates switching.", 6 ~{FAULT} "Open Collector Indication Pin. When either VTRANS or VCC exceeds the user-selected voltage range, or an internal UVLO condition occurs, a transistor turns on. The part will stop switching. This pin needs a proper pull-up (See Datasheet)", 7 ~{DONE} "Open Collector Indication Pin. When the target output voltage (charge mode) is reached or the F\A\U\L\T\ pin goes low, a transistor turns on. This pin needs a proper pull-up resistor or current source.", 8 CHARGE "Charge Pin. Initiates a new charge cycle (charge mode) or enables the part (regulation mode) when driven higher than 1.5V. Bring this pin below 0.3V to discontinue charging and put the part into shutdown. Turn-on ramp rates (See Datasheet)", 9 CLAMP "Internal Clamp Voltage Selection Pin. Tie this pin to VCC to activate the internal 5.6V gate driver clamp. Tie this pin to ground to activate the internal 10.5V gate driver clamp.", 10 FB "Feedback Regulation Pin. Use this pin to achieve low noise voltage regulation. FB is internally regulated to 1.22V when a resistive divider is tied from this pin to the output. FB pin should not float. Tie FB pin to either a (See Datasheet)", 11 CSN "Negative Current Sense Pin. Senses external NMOS source current. Connect to local RSENSE ground connection for proper Kelvin sensing. The current limit is set by 106mV/RSENSE.", 12 CSP "Positive Current Sense Pin. Senses NMOS source current. Connect the NMOS source terminal and the current sense resistor to this pin. The current limit is fixed at 106mV/RSENSE in charge mode. The current limit can be reduced (See Datasheet)", 13 VCC "Input Supply Pin. Must be locally bypassed with high grade (X5R or better) ceramic capacitor. The minimum operating voltage for VCC is 4.75V.", 14 LVGATE "Low Voltage Gate Pin. Connect the NMOS gate terminal to this pin when operating VCC below 8V. The internal gate driver will drive the voltage to the VCC rail. When operating VCC higher than 8V, tie this pin directly to VCC.", 15 HVGATE "High Voltage Gate Pin. Connect NMOS gate terminal to this pin for all VCC operating voltages. Internal gate driver will drive the voltage to within VCC -2V during each switch cycle.", 16 RBG "Bias Generation Pin. Generates a bias current set by 0.98V/RBG. Select RBG to achieve desired resistance for RDCM, RVOUT, and RVTRANS.", 17 NC "No Connection.", 18 RVOUT "Output Voltage Sense Pin. Develops a current proportional to the output capacitor voltage.", 19 NC "No Connection.", 20 RDCM "Discontinuous Mode Sense Pin. Senses when the external NMOS drain is equal to 20uA ?RDCM + VTRANS and initiates the next switch cycle. Place a resistor equal to 0.45 times the resistor on the RVTRANS pin between this pi(See Datasheet)", 21 GND "Ground. Tie directly to local ground plane."

## MAX 6682
designator U?  Supplier Part Number 1: MAX6682MUA+-ND
MAX 6685 Thermistor - SPI converter, 8bit; Supplier 1: Digi-Key
pins: 1 NC, 2 R+, 3 R-, 4 GND, 5 nCS, 6 SO, 7 SCK, 8 VCC

## MOSFET AON6407
designator Q?, comment AON6407
MOSFET P-CH 30V 32A 8DFN; MF: Alpha & Omega Semiconductor Inc.; Package: 8-PowerSMD; MP: AON6407; Digikey: 785-1421-1-ND; Digikey Link: https://www.digikey.ca/product-detail/en/alpha-omega-semiconductor-inc/AON6407/785-1421-1-ND/3466800; Supplier 1: Digi-Key; Supplier Part Number 1: 785-1421-1-ND
pins: D, G, S

## MOSFET BSC320N20NS3
designator Q?, comment BSC350N20NSFD
MOSFET N-CH 36A 200V; MF: Infineon; Package: 8-PowerTDFN; Digikey: BSC320N20NS3GATMA1CT-ND; Digikey Link: https://www.digikey.ca/en/products/detail/infineon-technologies/BSC320N20NS3GATMA1/2337851; Supplier 1: Digi-Key; Supplier Part Number 1: BSC320N20NS3GATMA1CT-ND
pins: D, G, S

## MOSFET BSC0921NDI
designator U?
MOSFET N+N 30V 17A; MF: Infineon Technologies; MF P/N: BSC0921NDI; Supplier 1: Digi-Key; Supplier Part Number 1: BSC0921NDIATMA1CT-ND
pins: D1, G1, G2, S1D2, S2

## MOSFET IPD320N20N3GATMA1
designator Q?, comment IPD320N20N3GATMA1
MOSFET N-CH 34A 200V DPAK; MF: Infineon; Package: DPAK; Digikey: IPD320N20N3GATMA1CT-ND; Digikey Link: https://www.digikey.ca/en/products/detail/infineon-technologies/IPD320N20N3GATMA1/5823324; Supplier 1: Digi-Key; Supplier Part Number 1: IPD320N20N3GATMA1CT-ND
pins: D, G, S

## MOSFET IPG20N06S4-15A
designator U?, comment NOTE: Nearing End of Life
MOSFET N+N 60V 20A; MF: Infineon Technologies; MF P/N: IPG20N06S4-15A; Supplier 1: Mouser; Supplier Part Number 1: 726-IPG20N06S415ATMA
pins: 1 S1, 2 G1, 3 S2, 4 G2, 6 D2, 8 D1

## MOSFET N-CH 30V 18.5A
designator Q?, comment N-Channel  (value not drawn)
MOSFET N-CH 30V 18.5A 8-SOIC; MF: ON Semiconductor; MP: FDS8813NZ; Digikey: FDS8813NZCT-ND; Price: 1.727 CAD; Rating: 30V; Digikey Link: https://www.digikey.ca/product-detail/en/on-semiconductor/FDS8813NZ/FDS8813NZCT-ND/1626932; Package: 8-SOIC; Supplier 1: Digi-Key; Supplier Part Number 1: FDS8813NZCT-ND
pins: D, G, S

## MOSFET SI4425DDY-T1-GE3
designator Q?, comment SI4425DDY-T1-GE3
P-Channel 30V 19.7A (Tc) 2.5W (Ta), 5.7W (Tc) Surface Mount 8-SO; MF: ON Semiconductor; Package: 8-SOIC; MP: SI4425DDY-T1-GE3; ComponentLink1Description: digikey; ComponentLink1URL: https://www.digikey.ca/en/products/detail/vishay-siliconix/SI4425DDY-T1-GE3/2622187; Digikey: SI4425DDY-T1-GE3CT-ND; Digikey Link: https://www.digikey.ca/product-detail/en/vishay-siliconix/SI4425DDY-T1-GE3/SI4425DDY-T1-GE3CT-ND/3305378
pins: D, G, S

## N-BJT BCP54
designator *
TRANS NPN 45V 1A SOT223; MF: Nexperia; MP: BCP54; Digikey PN: 1727-1531-1-ND; Supplier 1: Digi-Key; Supplier Part Number 1: 1727-1531-1-ND
pins: 1 B, 2 C, 3 E

## NetTie
designator NT?  (value not drawn)  (net tie, no BOM)
Combines 2 nets
pins: 1, 2

## NT_8
designator NT?, comment 8mil Nettie
8mil wide nettie
pins: 1, 2

## NTC
designator R?, comment Thermistor 100k
Value: 0; Package: 0805
pins: 1 R1, 2 R2

## ODIN-W262
designator *
Supplier 1: Digi-Key; Supplier Part Number 1: 672-1017-6-ND
part A pins: A1 ~{RESET} (in), A5 UART_DTR (out), A6 ~{SWITCH_0} (in), A7 RED (out), A8 GREEN/!SWITCH_1 (io), A9 BLUE (out), A10 ~{UART_CTS} (in), A11 UART_TXD (out), A12 ~{UART_RTS} (out), A13 UART_RXD (in), A18 UART_DSR (in), C14 RMII_MDC (out), C15 RMII_MDIO (io), C16 LPO_CLK (in), D1 RMII_TXD0 (out), D2 RMII_TXD1 (out), D3 RMII_TXEN (out), D4 RMII_CRSDV (in), D5 RMII_RXD0 (in), D6 RMII_RXD1 (in), D8 RMII_REFCLK (in)
part B pins: 1 GND@7 (power), 2 GND@8 (power), 3 GND@9 (power), 4 GND@10 (power), 5 GND@11 (power), 6 GND@12 (power), 7 GND@13 (power), 8 GND@14 (power), 9 GND@15 (power), 10 GND@16 (power), 11 GND@17 (power), 12 GND@18 (power), 13 GND@19 (power), 14 GND@20 (power), 15 GND@21 (power), 16 GND@22 (power), 17 GND@23 (power), 18 GND@24 (power), 19 GND@25 (power), 20 GND@26 (power), 21 GND@27 (power), 22 GND@28 (power), 23 GND@29 (power), 24 GND@30 (power), 25 GND@31 (power), 26 GND@32 (power), 27 GND@33 (power), 28 GND@34 (power), 29 GND@35 (power), 30 GND@36 (power), 31 GND@37 (power), 32 GND@38 (power), 33 GND@39 (power), 34 GND@40 (power), 35 GND@41 (power), 36 GND@42 (power), 37 GND@43 (power), 38 GND@44 (power), 39 GND@45 (power), A2 V_INT (power), A3 GND@1 (power), A4 VCC (power), A14 NC@1 (in), A15 NC@2 (in), A16 NC@3 (in), A17 NC@4 (in), B1 NC@5 (in), B2 NC@6 (in), B3 NC@7 (in), B4 NC@8 (in), B5 NC@9 (in), B6 NC@10 (in), B7 NC@11 (in), B8 NC@12 (in), C1 GND@2 (power), C2 NC@13 (in), C3 GND@3 (power), C4 GND@4 (power), C5 NC@14 (in), C6 NC@15 (in), C7 GND@5 (power), C8 NC@16 (in), C9 NC@17 (in), C10 NC@18 (in), C11 NC@19 (in), C12 NC@20 (in), C13 NC@21 (in), C17 NC@22 (in), C18 NC@23 (in), D7 GND@6 (power), TP1 TEST_PAD1 (in), TP2 TEST_PAD2 (in), TP3 TEST_PAD3 (in), TP4 TEST_PAD4 (in), TP5 TEST_PAD5 (in), TP6 TEST_PAD6 (in), TP7 TEST_PAD7 (in), TP8 TEST_PAD8 (in), TP9 TEST_PAD9 (in), TP10 TEST_PAD10 (in), TP11 TEST_PAD11 (in), TP12 TEST_PAD12 (in)

## OP AMP DUAL
designator U?
IC OPAMP VFB 50KHZ RRO 8MSOP; Manufacturer: Analog Devices; Manufacturer Part Number: ADA4505-2ARMZ; Common Mode Rejection Ratio: 105dB; Max Supply Voltage: 5V; Min Supply Voltage: 1.8V; Max Dual Supply Voltage: 2.5V; Min Dual Supply Voltage: 900mV; Voltage Gain: 120dB; Operating Supply Voltage: 3V; Slew Rate: 0.006V/µs; Input Offset Voltage (Vos): 3mV; Input Bias Current: 0.5pA; Operating Supply Current: 14uA; Number of Channels: 2; Power Supply Rejection Ratio (PSRR): 110dB; Output Current per Channel: 40mA; Quiescent Current: 7uA; Input Capacitance: 4.7pF; Supply Type: Single,Dual; RoHS: Yes; Category: Amplifiers - Op Amps, Buffer, Instrumentation; Stock 1: 767; Case/Package: MSOP; Number of Pins: 8; Contact Plating: Tin,Matte; Min Operating Temperature: -40°C; Max Operating Temperature: 125°C; Gain Bandwidth Product: 50kHz; Packaging: Rail/Tube; Package Quantity: 50; Unity Gain Bandwidth Product: 50kHz; Number of Circuits: 2; Number of Elements: 2; Number of Amplifiers: 2; Max Input Voltage: 5V; Nominal Supply Current: 7uA; Bandwidth: 50kHz; Length: 3.2mm; Width: 3.2mm; Height: 0.95mm; Lead Free: Contains Lead; REACH SVHC: No SVHC; ComponentLink1URL: https://datasheet.ciiva.com/24017/ada4505-1-4505-2-4505-4-249280-24017665.pdf?src-supplier=Mouser; ComponentLink1Description: https://datasheet.ciiva.com/24017/ada4505-1-4505-2-4505-4-249280-24017665.pdf?src-supplier=Mouser; ComponentLink2URL: https://datasheet.ciiva.com/2974/ada4505-1-4505-2-4505-4-2974772.pdf?src-supplier=Avnet; ComponentLink2Description: https://datasheet.ciiva.com/2974/ada4505-1-4505-2-4505-4-2974772.pdf?src-supplier=Avnet; ComponentLink3URL: https://datasheet.ciiva.com/17569/ada4505-1-4505-2-4505-4-17569270.pdf?src-supplier=Avnet+Europe; ComponentLink3Description: https://datasheet.ciiva.com/17569/ada4505-1-4505-2-4505-4-17569270.pdf?src-supplier=Avnet+Europe; ComponentLink4URL: https://datasheet.ciiva.com/1805/ada4505-1-4505-2-4505-4-1805784.pdf?src-supplier=Digi-Key; ComponentLink4Description: https://datasheet.ciiva.com/1805/ada4505-1-4505-2-4505-4-1805784.pdf?src-supplier=Digi-Key; Digikey: ADA4505-2ARMZ-ND
pins: 1 OUTA (out), 2 INA- (in), 3 INA+ (in), 4 V- (power), 5 INB+ (in), 6 INB- (in), 7 OUTB (out), 8 V+ (power)

## OP AMP MIC7300YM5-TR
designator U?, comment MIC7300YM5-TR  Supplier Part Number 1: 576-1319-1-ND
IC OPAMP GP 1 CIRCUIT SOT23-5; Manufacturer: Microchip; Voltage Gain: 300-340V/mV; Gain Bandwidth: 0.55MHz; Min Supply Voltage: 2.2V; Max Junction Temp: +85°C; Input Bias Current: 0.0000005uA; Number Of Channels: 1; Input Offset Voltage: 1mV; Nominal Supply Current: 0.7-1.5mA; Max Supply Voltage: 10V; Standoff Height: 0mm; Mouser Description: Operational Amplifiers - Op Amps; Height: 1.45mm; Footprint Url: https://ww1.microchip.com/downloads/en/PackagingSpec/00000049CH.pdf; Temperature: -40°C to +85°C; Package: SOT23-5LD-PL-1; Automotive: No; Temperature Range High: +85°C; ComponentLink2URL: http://www.microchip.com/mymicrochip/filehandler.aspx?ddocname=en580613; Device Class L2: Linear ICs; Lead Free: Yes; ComponentLink2Description: Datasheet; Digikey Description: IC OPAMP GP 1 CIRCUIT SOT23-5; Device Class L3: Amplifiers - Op Amps; Manufacturer Part Number: MIC7300YM5-TR; Temperature Range Low: -40°C; Category: IC; RoHS: TRUE; Octopart: https://octopart.com/mic7300ym5-tr-microchip-66803593; Device Class L1: Integrated Circuits (ICs); Supplier 1: Digi-Key
pins: 1 OUT (out), 2 V- (power), 3 IN+ (hiz), 4 IN- (hiz), 5 V+ (power)
text: -

## OP AMP SINGLE
designator U?
ANALOG DEVICES - ADA4505-1ARJZ-R7 - IC, AMPLIF. OPER., R-R, CMOS, SOT23-5; Min Supply Voltage: 1.8V; Max Supply Voltage: 5V; Min Dual Supply Voltage: 900mV; Max Dual Supply Voltage: 2.5V; Voltage Gain: 120dB; Common Mode Rejection Ratio: 105dB; Gain Bandwidth Product: 50kHz; Slew Rate: 0.006V/µs; Operating Supply Voltage: 3V; Number of Circuits: 1; Input Bias Current: 500nA; Input Offset Voltage (Vos): 3mV; Operating Supply Current: 9uA; Output Current per Channel: 40mA; Power Supply Rejection Ratio (PSRR): 110dB; Input Capacitance: 4.7pF; Supplier 1: Digi-Key; Manufacturer: Analog Devices; Manufacturer Part Number: ADA4505-1ARJZ-R7; RoHS: Yes; Category: Amplifiers - Op Amps, Buffer, Instrumentation; Stock 1: 3416; Case/Package: SOT-23-5; Number of Pins: 5; Contact Plating: Tin,Matte; Min Operating Temperature: -40°C; Max Operating Temperature: 125°C; Bandwidth: 50kHz; Packaging: Tape and Reel; Package Quantity: 3000; Unity Gain Bandwidth Product: 50kHz; Number of Channels: 1; Number of Elements: 1; Number of Amplifiers: 1; Quiescent Current: 9uA; REACH SVHC: No SVHC; Lead Free: Contains Lead; ComponentLink1URL: https://datasheet.ciiva.com/22712/1610797-22712032.pdf?src-supplier=Element14; ComponentLink1Description: https://datasheet.ciiva.com/22712/1610797-22712032.pdf?src-supplier=Element14; ComponentLink2URL: https://datasheet.ciiva.com/23805/608874-23805844.pdf?src-supplier=Newark; ComponentLink2Description: https://datasheet.ciiva.com/23805/608874-23805844.pdf?src-supplier=Newark; ComponentLink3URL: https://datasheet.ciiva.com/1487/1610797-1487372.pdf?src-supplier=Element14; ComponentLink3Description: https://datasheet.ciiva.com/1487/1610797-1487372.pdf?src-supplier=Element14; Digikey: ADA4505-1ARJZ-R7CT-ND
pins: 1 OUT (out), 2 V- (power), 3 IN+ (in), 4 IN- (in), 5 V+ (power)

## POT 20K THRU
designator R?, comment 20K  (value not drawn)
TRIMMER 20K OHM 0.5W PC PIN TOP - Phillips Screw head; MF: Bourns Inc.; MP: 3362P-1-203RLF; ComponentLink1Description: Digikey Link; ComponentLink1URL: https://www.digikey.ca/product-detail/en/bourns-inc/3362P-1-203RLF/3362P-1-203RLFCT-ND/3767981; Digikey: 3362P-1-203RLF; Package: Through Hole; Price: 3.05 CAD; ComponentLink2Description: SnapEDA Link (205, since 203 DNE); ComponentLink2URL: https://www.snapeda.com/parts/3362P-1-205LF/Bourns%20-%20J.W.%20Miller/view-part/463695/
pins: 1 CCW, 2 WIPER, 3 CW

## PT65506L508
designator S*
Rotary Dip Switch - 16 position Hexadecimal Complement Through Hole, Right Angle Rotary with Knob Actuator 150mA 24VDC; MF: APEM Inc.; MP: PT65506L508; ComponentLink1Description: Digikey Link; ComponentLink1URL: https://www.digikey.com/en/products/detail/apem-inc/PT65506L508/1797072; ComponentLink2Description: SnapEDA Link; ComponentLink2URL: https://www.snapeda.com/parts/PT65506L508/APEM%20Inc./view-part/?ref=search&t=PT65506L508; Digikey: PT65506L508; Package: Through Hole Right Angle; Price: $5.48240
pins: 1, 2, 4, 8, C, C

## REG LIN 5V
designator U?, comment DC DC CONVERTER 5V 8W
Linear Regulator Replacement DC DC Converter 1 Output 5V 1.5A 7V - 36V Input; MF: Murata Power Solutions Inc.; MP: OKI-78SR-5/1.5-W36H-C; ComponentLink1Description: digikey; ComponentLink1URL: https://www.digikey.ca/product-detail/en/murata-power-solutions-inc/OKI-78SR-5-1.5-W36H-C/811-2692-ND/3438675; Digikey: 811-2692-ND; Digikey Link: https://www.digikey.ca/products/en?keywords=OKI-78SR-5%2F1.5-W36H-C; Output Voltage: 5V; Power: 8W; Output Current (Max): 1.5A; Supplier 1: Digi-Key; Supplier Part Number 1: 811-2692-ND
pins: Gnd, Vin, Vout

## REG LIN POS ADJ
designator U?, comment LDO
Linear Voltage Regulator IC  1 Output  500mA 8-SOIC; MF: Texas Instruments; MP: TL5209DR; Digikey: 296-21569-1-ND; Digikey Link: https://www.digikey.ca/product-detail/en/texas-instruments/TL5209DR/296-21569-1-ND/1427137; Price: 1.548 CAD; Rating: 500mA; Package: 8 SOIC; Supplier 1: Digi-Key; Supplier Part Number 1: 296-21569-1-ND
pins: ADJ, EN, GND, IN, OUT

## RES 0 JUMPER
designator R?, comment JUMPER
RES SMD 0 OHM JUMPER GENERIC 0805; Value: 0; Package: 0805
pins: 1 R1, 2 R2

## RES 1.0 1/8W
designator R?, comment 1
RES SMD 1.0 OHM 5% 1/8W 0805; Power (Watts): 0.125W; Package: 0805; Value: 1; Tolerance: 5%
pins: 1 R1, 2 R2

## RES 1.1 1/8W
designator R?, comment 1.1
RES SMD 1.1 OHM 5% 1/8W 0805; Power (Watts): 0.125W; Package: 0805; Value: 1.1; Tolerance: 5%
pins: 1 R1, 2 R2

## RES 1.1k 1/8W
designator R?, comment 1.1k
RES SMD 1.1K OHM 5% 1/8W 0805; Power (Watts): 0.125W; Package: 0805; Value: 1.1k; Tolerance: 5%
pins: 1 R1, 2 R2

## RES 1.2 1/8W
designator R?, comment 1.2
RES SMD 1.2 OHM 5% 1/8W 0805; Power (Watts): 0.125W; Package: 0805; Value: 1.2; Tolerance: 5%
pins: 1 R1, 2 R2

## RES 1.2k 1/8W
designator R?, comment 1.2k
RES SMD 1.2K OHM 5% 1/8W 0805; Power (Watts): 0.125W; Package: 0805; Value: 1.2k; Tolerance: 5%
pins: 1 R1, 2 R2

## RES 1.3 1/8W
designator R?, comment 1.3
RES SMD 1.3 OHM 5% 1/8W 0805; Power (Watts): 0.125W; Package: 0805; Value: 1.3; Tolerance: 5%
pins: 1 R1, 2 R2

## RES 1.3k 1/8W
designator R?, comment 1.3k
RES SMD 1.3K OHM 5% 1/8W 0805; Power (Watts): 0.125W; Package: 0805; Value: 1.3k; Tolerance: 5%
pins: 1 R1, 2 R2

## RES 1.5 1/8W
designator R?, comment 1.5
RES SMD 1.5 OHM 5% 1/8W 0805; Power (Watts): 0.125W; Package: 0805; Value: 1.5; Tolerance: 5%
pins: 1 R1, 2 R2

## RES 1.05k 1/8W
designator R?, comment 1.05k
RES SMD 1.05K OHM 0.1% 1/8W 0805; Wattage: 0.125W; Supplier 1: Digi-Key; Value: 1.05k; Package: 0805; Tolerance: 0.1%; Supplier Part Number 1: P1.05KDACT-ND
pins: 1 R1, 2 R2

## RES 1.5k 1/8W - 1%
designator R?, comment 1.5k
RES SMD 1.5K OHM 1% 1/8W 0805; Power (Watts): 0.125W; Package: 0805; Value: 1.5k; Tolerance: 1%; ComponentLink1Description: digikey; ComponentLink1URL: https://www.digikey.ca/en/products/detail/panasonic-electronic-components/ERJ-6ENF1022V/111476
pins: 1 R1, 2 R2

## RES 1.5k 1/8W - 5%
designator R?, comment 1.5k
RES SMD 1.5K OHM 5% 1/8W 0805; Power (Watts): 0.125W; Package: 0805; Value: 1.5k; Tolerance: 5%
pins: 1 R1, 2 R2

## RES 1.5k 50W
designator R?, comment 1k 50W
RES SMD 1.5K OHM 1% 50W D2PAK; Package: D2PAK (TO-263); Value: 1.5k; Power (Watts): 50W; Tolerance: 1%
pins: 1 R1, 2 R2, 3

## RES 1.6 1/8W
designator R?, comment 1.6
RES SMD 1.6 OHM 5% 1/8W 0805; Power (Watts): 0.125W; Package: 0805; Value: 1.6; Tolerance: 5%
pins: 1 R1, 2 R2

## RES 1.6k 1/8W
designator R?, comment 1.6k
RES SMD 1.6K OHM 5% 1/8W 0805; Power (Watts): 0.125W; Package: 0805; Value: 1.6k; Tolerance: 5%
pins: 1 R1, 2 R2

## RES 1.8 1/8W
designator R?, comment 1.8
RES SMD 1.8 OHM 5% 1/8W 0805; Power (Watts): 0.125W; Package: 0805; Value: 1.8; Tolerance: 5%
pins: 1 R1, 2 R2

## RES 1.8k 1/8W
designator R?, comment 1.8k
RES SMD 1.8K OHM 5% 1/8W 0805; Power (Watts): 0.125W; Package: 0805; Value: 1.8k; Tolerance: 5%
pins: 1 R1, 2 R2

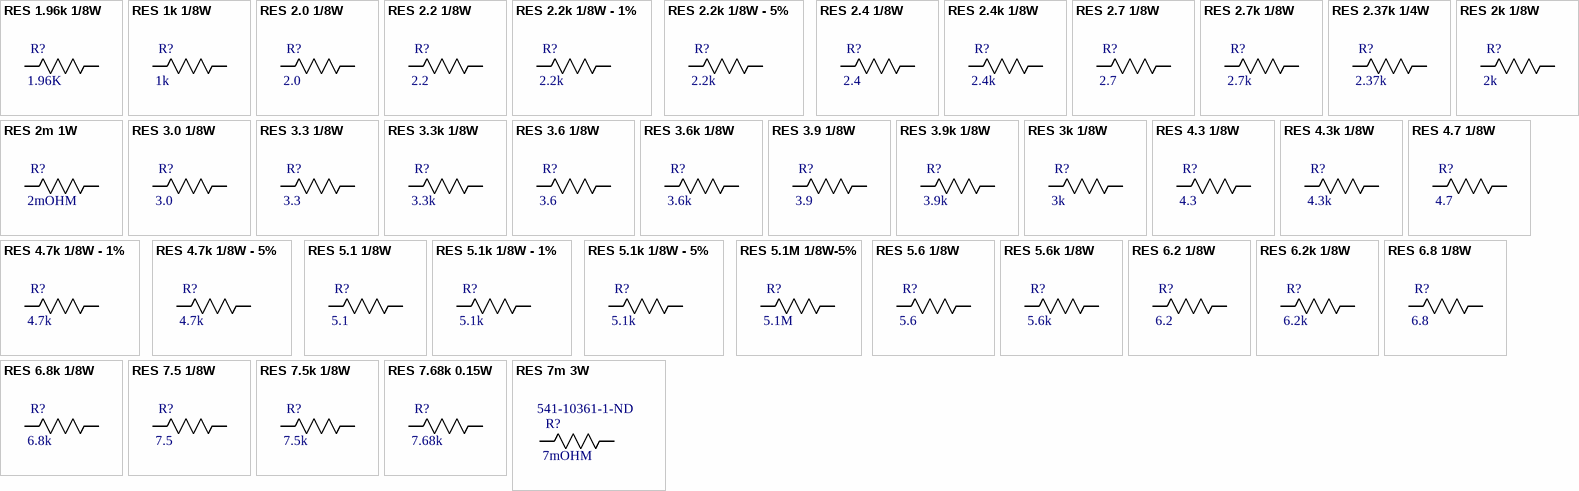
[diagram p6: symbols RES 1.96k 1/8W to RES 7m 3W]

## RES 1.96k 1/8W
designator R?, comment 1.96K
RES SMD 1.96K OHM 1% 1/8W 0805; Power (Watts): 0.125W; Package: 0805; Value: 1.96k; Tolerance: 1%
pins: 1 R1, 2 R2

## RES 1k 1/8W
designator R?, comment 1k
RES SMD 1K OHM 5% 1/8W 0805; Power (Watts): 0.125W; Package: 0805; Value: 1k; Tolerance: 5%
pins: 1 R1, 2 R2

## RES 2.0 1/8W
designator R?, comment 2.0
RES SMD 2.0 OHM 5% 1/8W 0805; Power (Watts): 0.125W; Package: 0805; Value: 2.0; Tolerance: 5%
pins: 1 R1, 2 R2

## RES 2.2 1/8W
designator R?, comment 2.2
RES SMD 2.2 OHM 5% 1/8W 0805; Power (Watts): 0.125W; Package: 0805; Value: 2.2; Tolerance: 5%
pins: 1 R1, 2 R2

## RES 2.2k 1/8W - 1%
designator R?, comment 2.2k
RES SMD 2.2K OHM 1% 1/8W 0805; Power (Watts): 0.125W; Package: 0805; Value: 2.2k; Tolerance: 1%
pins: 1 R1, 2 R2

## RES 2.2k 1/8W - 5%
designator R?, comment 2.2k
RES SMD 2.2K OHM 5% 1/8W 0805; Power (Watts): 0.125W; Package: 0805; Value: 2.2k; Tolerance: 5%
pins: 1 R1, 2 R2

## RES 2.4 1/8W
designator R?, comment 2.4
RES SMD 2.4 OHM 5% 1/8W 0805; Power (Watts): 0.125W; Package: 0805; Value: 2.4; Tolerance: 5%
pins: 1 R1, 2 R2

## RES 2.4k 1/8W
designator R?, comment 2.4k
RES SMD 2.4K OHM 5% 1/8W 0805; Power (Watts): 0.125W; Package: 0805; Value: 2.4k; Tolerance: 5%
pins: 1 R1, 2 R2

## RES 2.7 1/8W
designator R?, comment 2.7
RES SMD 2.7 OHM 5% 1/8W 0805; Power (Watts): 0.125W; Package: 0805; Value: 2.7; Tolerance: 5%
pins: 1 R1, 2 R2

## RES 2.7k 1/8W
designator R?, comment 2.7k
RES SMD 2.7K OHM 5% 1/8W 0805; Power (Watts): 0.125W; Package: 0805; Value: 2.7k; Tolerance: 5%
pins: 1 R1, 2 R2

## RES 2.37k 1/4W
designator R?, comment 2.37k
RES SMD 2.37K OHM 1% 1/4W 0805; Power (Watts): 0.25W; Package: 0805; Value: 2.37k; Tolerance: 1%
pins: 1 R1, 2 R2

## RES 2k 1/8W
designator R?, comment 2k
RES SMD 2K OHM 5% 1/8W 0805; Power (Watts): 0.125W; Package: 0805; Value: 2k; Tolerance: 5%
pins: 1 R1, 2 R2

## RES 2m 1W
designator R?, comment 2mOHM
RES SMD 2m OHM 1% 1W 1206; Package: 1206; Resistance: 2mOHM; Power (Watts): 1W; Tolerance: 1%
pins: 1 R1, 2 R2

## RES 3.0 1/8W
designator R?, comment 3.0
RES SMD 3.0 OHM 5% 1/8W 0805; Power (Watts): 0.125W; Package: 0805; Value: 3.0; Tolerance: 5%
pins: 1 R1, 2 R2

## RES 3.3 1/8W
designator R?, comment 3.3
RES SMD 3.3 OHM 5% 1/8W 0805; Power (Watts): 0.125W; Package: 0805; Value: 3.3; Tolerance: 5%
pins: 1 R1, 2 R2

## RES 3.3k 1/8W
designator R?, comment 3.3k
RES SMD 3.3K OHM 5% 1/8W 0805; Power (Watts): 0.125W; Package: 0805; Value: 3.3k; Tolerance: 5%
pins: 1 R1, 2 R2

## RES 3.6 1/8W
designator R?, comment 3.6
RES SMD 3.6 OHM 5% 1/8W 0805; Power (Watts): 0.125W; Package: 0805; Value: 3.6; Tolerance: 5%
pins: 1 R1, 2 R2

## RES 3.6k 1/8W
designator R?, comment 3.6k
RES SMD 3.6K OHM 5% 1/8W 0805; Power (Watts): 0.125W; Package: 0805; Value: 3.6k; Tolerance: 5%
pins: 1 R1, 2 R2

## RES 3.9 1/8W
designator R?, comment 3.9
RES SMD 3.9 OHM 5% 1/8W 0805; Power (Watts): 0.125W; Package: 0805; Value: 3.9; Tolerance: 5%
pins: 1 R1, 2 R2

## RES 3.9k 1/8W
designator R?, comment 3.9k
RES SMD 3.9K OHM 5% 1/8W 0805; Power (Watts): 0.125W; Package: 0805; Value: 3.9k; Tolerance: 5%
pins: 1 R1, 2 R2

## RES 3k 1/8W
designator R?, comment 3k
RES SMD 3K OHM 5% 1/8W 0805; Power (Watts): 0.125W; Package: 0805; Value: 3k; Tolerance: 5%
pins: 1 R1, 2 R2

## RES 4.3 1/8W
designator R?, comment 4.3
RES SMD 4.3 OHM 5% 1/8W 0805; Power (Watts): 0.125W; Package: 0805; Value: 4.3; Tolerance: 5%
pins: 1 R1, 2 R2

## RES 4.3k 1/8W
designator R?, comment 4.3k
RES SMD 4.3K OHM 5% 1/8W 0805; Power (Watts): 0.125W; Package: 0805; Value: 4.3k; Tolerance: 5%
pins: 1 R1, 2 R2

## RES 4.7 1/8W
designator R?, comment 4.7
RES SMD 4.7 OHM 5% 1/8W 0805; Power (Watts): 0.125W; Package: 0805; Value: 4.7; Tolerance: 5%
pins: 1 R1, 2 R2

## RES 4.7k 1/8W - 1%
designator R?, comment 4.7k
RES SMD 4.7k OHM 1% 1/8W 0805; Power (Watts): 0.125W; Package: 0805; Value: 4.7k; Tolerance: 1%
pins: 1 R1, 2 R2

## RES 4.7k 1/8W - 5%
designator R?, comment 4.7k
RES SMD 4.7k OHM 5% 1/8W 0805; Power (Watts): 0.125W; Package: 0805; Value: 4.7k; Tolerance: 5%
pins: 1 R1, 2 R2

## RES 5.1 1/8W
designator R?, comment 5.1
RES SMD 5.1 OHM 5% 1/8W 0805; Power (Watts): 0.125W; Package: 0805; Value: 5.1; Tolerance: 5%
pins: 1 R1, 2 R2

## RES 5.1k 1/8W - 1%
designator R?, comment 5.1k
RES SMD 5.1K OHM 1% 1/8W 0805; Power (Watts): 0.125W; Package: 0805; Value: 5.1k; Tolerance: 1%
pins: 1 R1, 2 R2

## RES 5.1k 1/8W - 5%
designator R?, comment 5.1k
RES SMD 5.1K OHM 5% 1/8W 0805; Power (Watts): 0.125W; Package: 0805; Value: 5.1k; Tolerance: 5%
pins: 1 R1, 2 R2

## RES 5.1M 1/8W-5%
designator R?, comment 5.1M
RES SMD 5.1 MOHM 5% 1/8W 0805; Power (Watts): 0.125W; Package: 0805; Value: 5.1M; Tolerance: 5%
pins: 1 R1, 2 R2

## RES 5.6 1/8W
designator R?, comment 5.6
RES SMD 5.6 OHM 5% 1/8W 0805; Power (Watts): 0.125W; Package: 0805; Value: 5.6; Tolerance: 5%
pins: 1 R1, 2 R2

## RES 5.6k 1/8W
designator R?, comment 5.6k
RES SMD 5.6K OHM 5% 1/8W 0805; Power (Watts): 0.125W; Package: 0805; Value: 5.6k; Tolerance: 5%
pins: 1 R1, 2 R2

## RES 6.2 1/8W
designator R?, comment 6.2
RES SMD 6.2 OHM 5% 1/8W 0805; Power (Watts): 0.125W; Package: 0805; Value: 6.2; Tolerance: 5%
pins: 1 R1, 2 R2

## RES 6.2k 1/8W
designator R?, comment 6.2k
RES SMD 6.2K OHM 5% 1/8W 0805; Power (Watts): 0.125W; Package: 0805; Value: 6.2k; Tolerance: 5%
pins: 1 R1, 2 R2

## RES 6.8 1/8W
designator R?, comment 6.8
RES SMD 6.8 OHM 5% 1/8W 0805; Power (Watts): 0.125W; Package: 0805; Value: 6.8; Tolerance: 5%
pins: 1 R1, 2 R2

## RES 6.8k 1/8W
designator R?, comment 6.8k
RES SMD 6.8K OHM 5% 1/8W 0805; Power (Watts): 0.125W; Package: 0805; Value: 6.8k; Tolerance: 5%
pins: 1 R1, 2 R2

## RES 7.5 1/8W
designator R?, comment 7.5
RES SMD 7.5 OHM 5% 1/8W 0805; Power (Watts): 0.125W; Package: 0805; Value: 7.5; Tolerance: 5%
pins: 1 R1, 2 R2

## RES 7.5k 1/8W
designator R?, comment 7.5k
RES SMD 7.5K OHM 5% 1/8W 0805; Power (Watts): 0.125W; Package: 0805; Value: 7.5k; Tolerance: 5%
pins: 1 R1, 2 R2

## RES 7.68k 0.15W
designator R?, comment 7.68k
RES SMD 7.68K OHM 0.1% 0.15W 0805; Power (Watts): 0.125W; Tolerance: 5%; Package: 0805; Value: 7.68k
pins: 1 R1, 2 R2

## RES 7m 3W
designator R?, comment 7mOHM  Supplier Part Number 1: 541-10361-1-ND
RES SMD 7m OHM 1% 3W 2512; MFG: VISHAY; Package: 1206; Resistance: 7mOHM; Power (Watts): 3W; Tolerance: 1%; ComponentLink1Description: Digikey Link; ComponentLink1URL: https://www.digikey.com/en/products/detail/vishay-dale/WFMB2512R0500FEA/9972278; Digikey: 541-10282-1-ND; Supplier 1: Digi-Key
pins: 1 R1, 2 R2

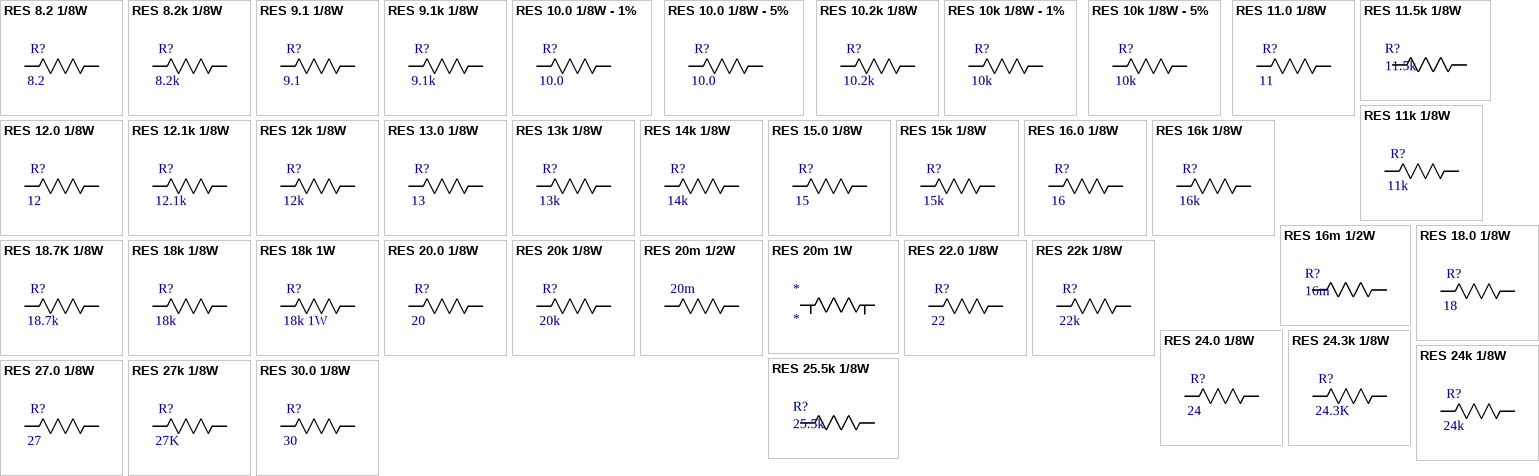
[diagram p7: symbols RES 8.2 1/8W to RES 30.0 1/8W]

## RES 8.2 1/8W
designator R?, comment 8.2
RES SMD 8.2 OHM 5% 1/8W 0805; Power (Watts): 0.125W; Package: 0805; Value: 8.2; Tolerance: 5%
pins: 1 R1, 2 R2

## RES 8.2k 1/8W
designator R?, comment 8.2k
RES SMD 8.2K OHM 5% 1/8W 0805; Power (Watts): 0.125W; Package: 0805; Value: 8.2k; Tolerance: 5%
pins: 1 R1, 2 R2

## RES 9.1 1/8W
designator R?, comment 9.1
RES SMD 9.1 OHM 5% 1/8W 0805; Power (Watts): 0.125W; Package: 0805; Value: 9.1; Tolerance: 5%
pins: 1 R1, 2 R2

## RES 9.1k 1/8W
designator R?, comment 9.1k
RES SMD 9.1K OHM 5% 1/8W 0805; Power (Watts): 0.125W; Package: 0805; Value: 9.1k; Tolerance: 5%
pins: 1 R1, 2 R2

## RES 10.0 1/8W - 1%
designator R?, comment 10.0
RES SMD 10.0 OHM 1% 1/8W 0805; Power (Watts): 0.125W; Package: 0805; Value: 10.0; Tolerance: 1%
pins: 1 R1, 2 R2